# Altium footprint library Button_DIP_12x12.PcbLib: 1 footprints
Each footprint in its own frame and in the unit in brackets; x right, y up, seen from the top. Pads: shape width x height; smd on the part's side, far side on the other; paste and mask are expansions set on the pad; w line width, h text height; cw(c..) or ccw(c..) is an arc to the next point about the centre after c.
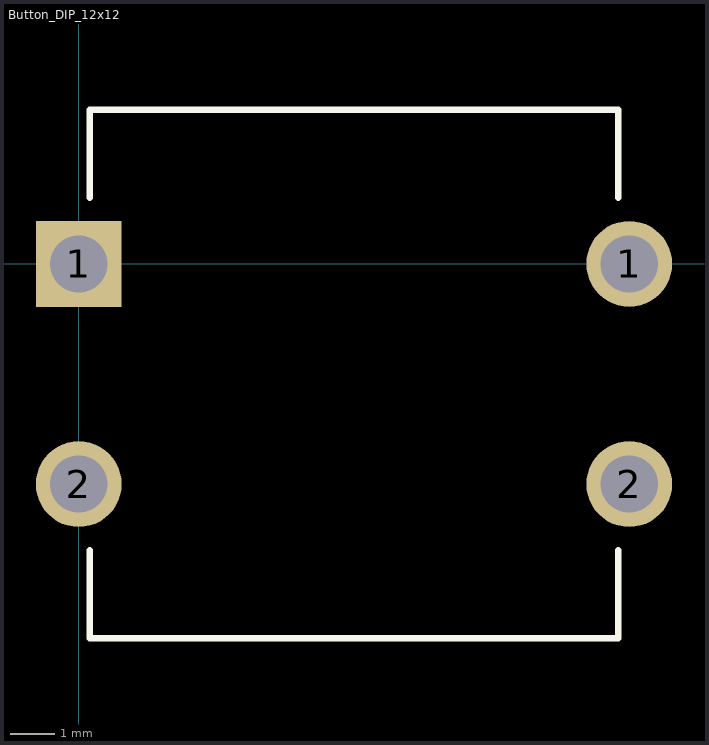
[diagram p0: the footprint, top view; thin cyan lines are the x and y axes]

## Button_DIP_12x12 [mm]
pads (4):
  rect 1.95x1.95 hole 1.3: 1(0,0)
  round 1.95 hole 1.3: 1(12.5,0) 2(0,-5) 2(12.5,-5)
Top Overlay:
  lines w0.15: 0.25,-6.5 0.25,-8.5 12.25,-8.5 12.25,-6.5 ; 0.25,1.5 0.25,3.5 12.25,3.5 12.25,1.5
3D body "button_3d_model.stp": height 5.9, standoff 0, extent 0.25,-8.5 12.25,3.5